# EAGLE library part OSCOPE (library Doc-Test_Interface)
The Oscilloscope has 50 OHM Termination so it is normally open unless the enable line is active with 12VDC.
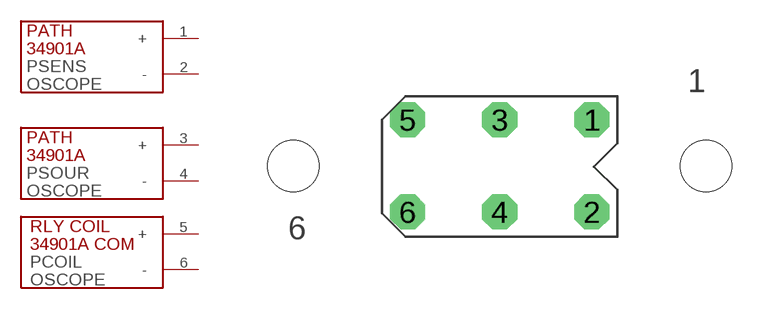
[diagram p7: symbol with the pads of 207524; footprint 207524]

Designator prefix P; gates SENS=PATH SOUR=PATH COIL=OSCEN

## OSCOPE  [207524]
1  SENS:+  in
2  SENS:-  in
3  SOUR:+  in
4  SOUR:-  in
5  COIL:+  in
6  COIL:-  in

## Footprint 207524 (pad centres in mm)
207524 Metrimate 6 Socket Header 207152 Metrimate 6 Socket Plug, which is not board mounted
drill 1.27 octagon: 1 5,2.5; 2 5,-2.5; 3 0,2.5; 4 0,-2.5; 5 -5,2.5; 6 -5,-2.5
hole 2.794 at -11.2,0
hole 2.794 at 11.2,0